# Altium footprint library Prosthetic Hand Component Library.PcbLib: 15 footprints
Each footprint in its own frame and in the unit in brackets; x right, y up, seen from the top. Pads: shape width x height; smd on the part's side, far side on the other; paste and mask are expansions set on the pad; w line width, h text height; cw(c..) or ccw(c..) is an arc to the next point about the centre after c.
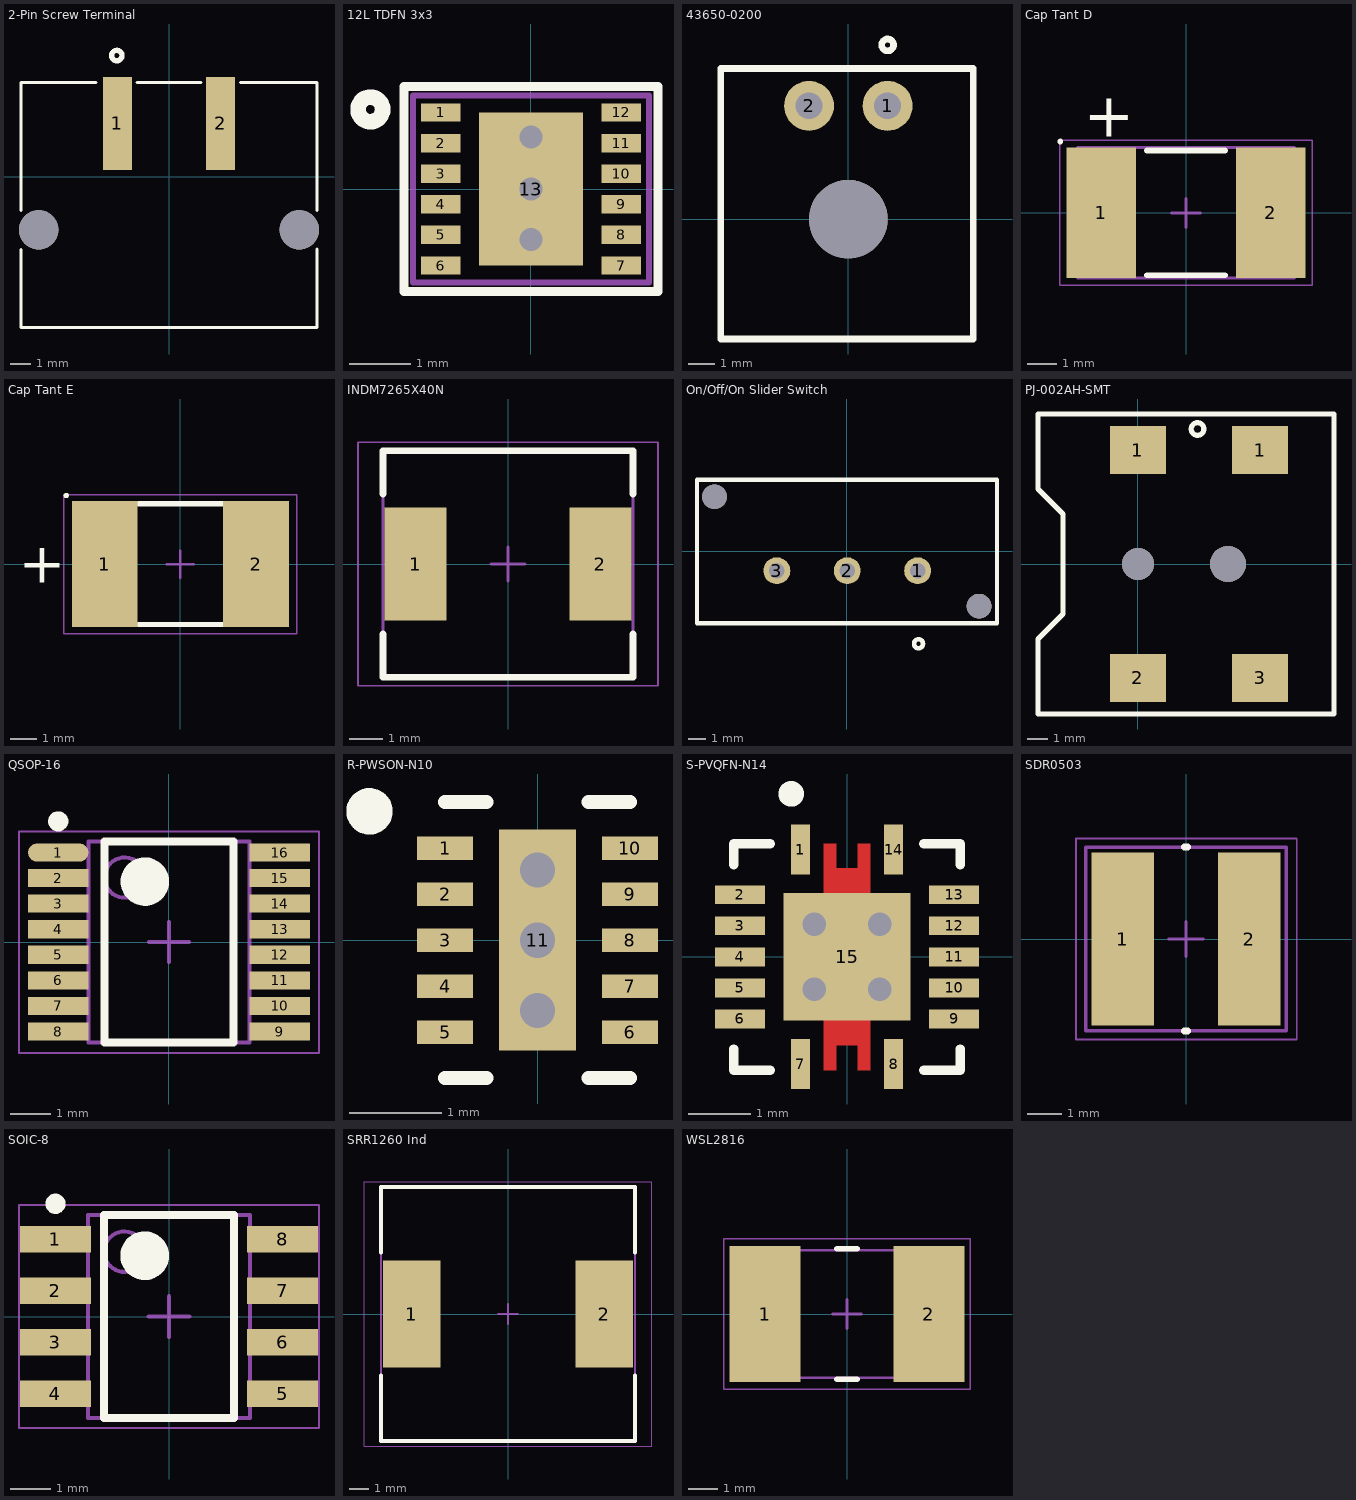
[diagram p0: the footprints below, top view; thin cyan lines are the x and y axes]

## 2-Pin Screw Terminal [mm] "Wurth 691709710302"
pads (4):
  rect 1.4x4.5 smd: 1(-2.5,2.575) 2(2.5,2.575)
  round 1.9 hole 1.9 unplated mask+0.178: ""(-6.3,-2.575) ""(6.3,-2.575)
Top Overlay:
  circle w0.254: c-2.525,5.85 r0.251
  lines w0.152: -7.15,-3.525 -7.15,-7.3 7.15,-7.3 7.15,-3.5 ; -7.15,-1.625 -7.15,4.55 -3.525,4.55 ; -1.55,4.55 1.55,4.55 ; 3.45,4.55 7.15,4.55 7.15,-1.625
3D body "691709710302.stp": height 10.88, standoff -1.82, extent -7,-7.15 7,4.4

## 12L TDFN 3x3 [mm] "3x3mm Dual Flat No Lead with EP"
height 3.55
pads (13):
  rect 0.65x0.3 smd mask+0.051: 1(-1.475,1.25) 2(-1.475,0.75) 3(-1.475,0.25) 4(-1.475,-0.25) 5(-1.475,-0.75) 6(-1.475,-1.25) 7(1.475,-1.25) 8(1.475,-0.75) 9(1.475,-0.25) 10(1.475,0.25) 11(1.475,0.75) 12(1.475,1.25)
  rect 1.7x2.5 smd mask+0.051: 13(0,0)
via 0,0.85 diameter 0.635 hole 0.381
via 0,-0.825 diameter 0.635 hole 0.381
via 0,0 diameter 0.635 hole 0.381
Top Overlay:
  circle w0.254: c-2.625,1.3 r0.202
  lines w0.152: -2.075,-1.675 2.075,-1.675 2.075,1.675 -2.075,1.675 -2.075,-1.675
Mechanical 13:
  lines w0.1: -1.925,-1.525 1.925,-1.525 1.925,1.525 -1.925,1.525 -1.925,-1.525
3D body "User Library-TDFN-12-EP-3x3-05.STEP": height 0.75, standoff 0, extent -1.5,-1.5 1.5,1.5

## 43650-0200 [mm] "Molex 43650-0200 for Battery Connector"
pads (3):
  round 1.905 hole 1.02: 1(1.5,4.325) 2(-1.5,4.325)
  round 3 hole 3 unplated mask+0.178: ""(0,0)
Top Overlay:
  circle w0.254: c1.5,6.65 r0.226
  lines w0.254: -4.875,-4.575 4.775,-4.575 4.775,5.75 -4.875,5.75 -4.875,-4.575
3D body "436500200.stp": height 5.55, standoff -3.36, extent -4.875,-4.575 4.775,5.325

## Cap Tant D [mm] "Chip Capacitor, 2-Leads, Body 7.30x4.30mm, IPC Medium Density"
height 3.1
pads (2):
  rect 2.4x4.5 smd: 1(-2.925,0) 2(2.925,0)
Top Overlay:
  circle w0.1: c-4.337,2.462 r0.05
  lines w0.2: -1.35,-2.15 1.35,-2.15 ; -1.35,2.15 1.35,2.15
  text "+" at -3.525,2.625 h1.52
Mechanical 13:
  lines w0.1: -3.75,-2.25 3.75,-2.25 3.75,2.25 -3.75,2.25 -3.75,-2.25
Mechanical 15:
  lines w0.05: -4.35,-2.5 4.35,-2.5 4.35,2.5 -4.35,2.5 -4.35,-2.5
  lines w0.1: -0.5,0 0.5,0 ; 0,-0.5 0,0.5
3D body "D_case.stp": height 2.99, standoff -0.01, extent -3.704,-2.225 3.695,2.225

## Cap Tant E [mm]
height 4.3
pads (2):
  rect 2.45x4.7 smd: 1(-2.825,0) 2(2.825,0)
Top Overlay:
  circle w0.1: c-4.262,2.562 r0.05
  lines w0.2: -1.55,-2.25 1.55,-2.25 ; -1.55,2.25 1.55,2.25
  text "+" at -6.025,-0.7 h1.52
Mechanical 13:
  lines w0.1: -3.75,-2.25 3.75,-2.25 3.75,2.25 -3.75,2.25 -3.75,-2.25
Mechanical 15:
  lines w0.05: -4.35,-2.6 4.35,-2.6 4.35,2.6 -4.35,2.6 -4.35,-2.6
  lines w0.1: -0.5,0 0.5,0 ; 0,-0.5 0,0.5
3D body "E_case.stp": height 4.19, standoff -0.01, extent -3.704,-2.225 3.695,2.225

## INDM7265X40N [mm] "Molded Inductor, 2-Leads, Body 7.20x6.50mm, IPC Medium Density"
height 4
pads (2):
  rect 1.85x3.4 smd: 1(-2.775,0) 2(2.775,0)
Top Overlay:
  lines w0.2: -3.75,-2.1 -3.75,-3.4 3.75,-3.4 3.75,-2.1 ; -3.75,2.1 -3.75,3.4 3.75,3.4 3.75,2.1
Mechanical 13:
  lines w0.1: -3.75,-3.35 3.75,-3.35 3.75,3.35 -3.75,3.35 -3.75,-3.35
Mechanical 15:
  lines w0.05: -4.5,-3.65 4.5,-3.65 4.5,3.65 -4.5,3.65 -4.5,-3.65
  lines w0.1: -0.5,0 0.5,0 ; 0,-0.5 0,0.5
3D body "SRP6540.stp": height 3.98, standoff -0.01, extent -3.594,-3.226 3.594,3.277

## On/Off/On Slider Switch [mil] "TE Connectivity 1825255-5"
pads (5):
  round 60 hole 35: 1(158,-43) 2(1,-43) 3(-156,-43)
  round 55 hole 55 unplated mask+7: ""(-295,122) ""(295,-122)
Top Overlay:
  circle w10: c160,-206 r10.05
  lines w10: -334,-160 -334,160 335,160 335,-160 -334,-160
3D body "c-1825255-5-a-3d.stp": height 473.17, standoff -137.07, extent -314.96,-130.9 314.96,132.88

## PJ-002AH-SMT [mm] "Conn power jack SMT 2.1mm x 5.5mm"
pads (6):
  rect 2.8x2.4 smd: 1(0,5.7) 1(6.1,5.7) 2(0,-5.7) 3(6.1,-5.7)
  round 1.6 hole 1.6 unplated mask+0.178: ""(0,0)
  round 1.8 hole 1.8 unplated mask+0.178: ""(4.496,0)
Top Overlay:
  circle w0.254: c2.975,6.75 r0.316
  lines w0.254: -5,-7.5 9.8,-7.5 9.8,-3.75 9.8,-1.875 9.8,1.875 9.8,3.75 9.8,7.5 -5,7.5 -5,3.75 -3.75,2.5 -3.75,-2.5 -5,-3.75 -5,-7.5
3D body "pj-002ah-smt.stp": height 11.18, standoff -1.02, extent -5,-6.3 9.8,6.3

## QSOP-16 [mm] "For MAX1873"
height 1.75
pads (16):
  oval 1.5x0.45 smd: 1(-2.75,2.222)
  rect 1.5x0.45 smd: 2(-2.75,1.587) 3(-2.75,0.953) 4(-2.75,0.318) 5(-2.75,-0.318) 6(-2.75,-0.953) 7(-2.75,-1.587) 8(-2.75,-2.222) 9(2.75,-2.222) 10(2.75,-1.587) 11(2.75,-0.953) 12(2.75,-0.318) 13(2.75,0.318) 14(2.75,0.953) 15(2.75,1.587) 16(2.75,2.222)
Top Overlay:
  circle w0.6: c-0.6,1.5 r0.3
  circle w0.25: c-2.75,2.997 r0.125
  lines w0.2: -1.6,-2.5 1.6,-2.5 1.6,2.5 -1.6,2.5 -1.6,-2.5
Mechanical 13:
  circle w0.1: c-1.1,1.6 r0.5
  lines w0.1: -2,-2.5 2,-2.5 2,2.5 -2,2.5 -2,-2.5
Mechanical 15:
  lines w0.05: -3.725,-2.75 3.725,-2.75 3.725,2.75 -3.725,2.75 -3.725,-2.75
  lines w0.1: -0.5,0 0.5,0 ; 0,-0.5 0,0.5
3D body "QSOP-16.step": height 1.75, standoff 0, extent -3.01,-2.5 3.01,2.5

## R-PWSON-N10 [mil]
pads (11):
  rect 24x10 smd paste-5: 1(-39.5,39.37) 2(-39.5,19.68) 3(-39.5,0) 4(-39.5,-19.68) 5(-39.5,-39.37) 6(39.5,-39.37) 7(39.5,-19.68) 8(39.5,0) 9(39.5,19.68) 10(39.5,39.37)
  rect 33.07x94.49 smd paste-46.5: 11(0,0)
via 0,-30 diameter 25 hole 15
via 0,30 diameter 25 hole 15
via 0,0 diameter 25 hole 15
Top Overlay:
  circle w10: c-71.85,55.12 r4.92
  lines w6: -39.5,-59 -21.75,-59 ; -39.5,59 -21.75,59 ; 21.75,-59 39.5,-59 ; 21.75,59 39.5,59
Top Paste:
  region: 16.5,47 -16.5,47 -16.5,-47 16.5,-47
3D body "User Library-10WSON.step": height 27, standoff -0.36, extent -59.51,-59.05 59,59.05

## S-PVQFN-N14 [mil]
pads (15):
  rect 12x31.68 smd: 1(-29.53,68.01) 7(-29.53,-68.01) 8(29.53,-68.01) 14(29.53,68.01)
  rect 31.68x12 smd: 2(-68.01,39.38) 3(-68.01,19.69) 4(-68.01,0) 5(-68.01,-19.69) 6(-68.01,-39.38) 9(68.01,-39.38) 10(68.01,-19.69) 11(68.01,0) 12(68.01,19.69) 13(68.01,39.38)
  rect 80.71x80.71 smd paste-39.85: 15(0,0)
via -20.67,-20.67 diameter 27 hole 15
via 20.67,-20.67 diameter 27 hole 15
via 20.67,20.67 diameter 27 hole 15
via -20.67,20.67 diameter 27 hole 15
Top Layer:
  region: -14.76,-40.35 14.76,-40.35 14.76,-71.85 6.89,-71.85 6.89,-56.1 -6.89,-56.1 -6.89,-71.85 -14.76,-71.85
  region: -14.76,40.35 14.76,40.35 14.76,71.85 6.89,71.85 6.89,56.1 -6.89,56.1 -6.89,71.85 -14.76,71.85
Top Overlay:
  circle w10: c-35.43,103.35 r3.11
  lines w6: -71.85,-58.48 -71.85,-71.85 -48.63,-71.85 ; -71.85,58.48 -71.85,71.85 -48.63,71.85 ; 48.63,-71.85 71.85,-71.85 71.85,-58.48 ; 48.63,71.85 71.85,71.85 71.85,58.48
Top Paste:
  region: -14.76,-40.35 -6.89,-40.35 -6.89,-71.85 -14.76,-71.85
  region: 6.89,-40.35 14.76,-40.35 14.76,-71.85 6.89,-71.85
  region: -14.76,40.35 -6.89,40.35 -6.89,71.85 -14.76,71.85
  region: 6.89,40.35 14.76,40.35 14.76,71.85 6.89,71.85
  region: 40.35,40.35 -40.35,40.35 -40.35,-40.35 40.35,-40.35
Top Solder:
  region: -14.76,-40.35 14.76,-40.35 14.76,-71.85 6.89,-71.85 6.89,-56.1 -6.89,-56.1 -6.89,-71.85 -14.76,-71.85
  region: -14.76,40.35 14.76,40.35 14.76,71.85 6.89,71.85 6.89,56.1 -6.89,56.1 -6.89,71.85 -14.76,71.85
3D body "User Library-QFN-14_Therm.STEP": height 39.37, standoff 0, extent -68.9,-68.8 68.9,69

## SDR0503 [mil]
height 129.92
pads (2):
  rect 71x197 smd: 1(-72,0) 2(72,0)
Top Overlay:
  lines w7.87: -1.97,-104.33 1.97,-104.33 ; -1.97,104.33 1.97,104.33
Mechanical 13:
  lines w3.94: -114,-104.33 -114,104.33 114,104.33 114,-104.33 -114,-104.33
Mechanical 15:
  lines w1.97: -125,-114.17 -125,114.17 126,114.17 126,-114.17 -125,-114.17
  lines w3.94: -19.69,0 19.68,0 ; 0,-19.68 0,19.68
3D body "sdr0503.stp": height 118.11, standoff 0, extent -98.42,-98.42 98.43,98.43

## SOIC-8 [mm] "SOIC, 8-Leads, Body 4.90x3.90mm, Pitch 1.27mm, IPC Medium Density"
height 1.75
pads (8):
  rect 1.75x0.65 smd: 1(-2.8,1.905) 2(-2.8,0.635) 3(-2.8,-0.635) 4(-2.8,-1.905) 5(2.8,-1.905) 6(2.8,-0.635) 7(2.8,0.635) 8(2.8,1.905)
Top Overlay:
  circle w0.25: c-2.8,2.78 r0.125
  circle w0.6: c-0.6,1.5 r0.3
  lines w0.2: -1.6,-2.5 -1.6,2.5 1.6,2.5 1.6,-2.5 -1.6,-2.5
Mechanical 13:
  circle w0.1: c-1.1,1.6 r0.5
  lines w0.1: -2,-2.5 -2,2.5 2,2.5 2,-2.5 -2,-2.5
Mechanical 15:
  lines w0.05: -3.7,-2.75 -3.7,2.75 3.7,2.75 3.7,-2.75 -3.7,-2.75
  lines w0.1: -0.5,0 0.5,0 ; 0,-0.5 0,0.5
3D body "SOIC-8.step": height 1.75, standoff 0, extent -3,-2.5 3,2.5

## SRR1260 Ind [mm] "Precision Wire Wound Inductor, 2-Leads, Body 12.50x12.50mm, IPC Medium Density"
height 6.5
pads (2):
  rect 2.9x5.4 smd: 1(-4.85,0) 2(4.85,0)
Top Overlay:
  lines w0.2: -6.4,-3.1 -6.4,-6.4 6.4,-6.4 6.4,-3.1 ; -6.4,3.1 -6.4,6.4 6.4,6.4 6.4,3.1
Mechanical 13:
  lines w0.1: -6.4,-6.4 6.4,-6.4 6.4,6.4 -6.4,6.4 -6.4,-6.4
Mechanical 15:
  lines w0.05: -7.225,-6.65 7.225,-6.65 7.225,6.65 -7.225,6.65 -7.225,-6.65
  lines w0.1: -0.5,0 0.5,0 ; 0,-0.5 0,0.5
3D body "SRR1260A.STP": height 6.25, standoff 0, extent -6.25,-6.25 6.25,6.25

## WSL2816 [mm] "Chip Resistor"
height 0.66
pads (2):
  rect 2.45x4.7 smd: 1(-2.825,0) 2(2.825,0)
Top Overlay:
  lines w0.2: -0.35,-2.25 0.35,-2.25 ; -0.35,2.25 0.35,2.25
Mechanical 13:
  lines w0.1: -3.65,-2.2 3.65,-2.2 3.65,2.2 -3.65,2.2 -3.65,-2.2
Mechanical 15:
  lines w0.05: -4.25,-2.6 4.25,-2.6 4.25,2.6 -4.25,2.6 -4.25,-2.6
  lines w0.1: -0.5,0 0.5,0 ; 0,-0.5 0,0.5
3D body "WSL2816.step": height 0.66, standoff 0, extent -3.65,-2.2 3.65,2.2